# Altium footprint library Ad_Fpga.PcbLib: 52 footprints (part 4 of 4)
Each footprint in its own frame and in the unit in brackets; x right, y up, seen from the top. Pads: shape width x height; smd on the part's side, far side on the other; paste and mask are expansions set on the pad; w line width, h text height; cw(c..) or ccw(c..) is an arc to the next point about the centre after c.
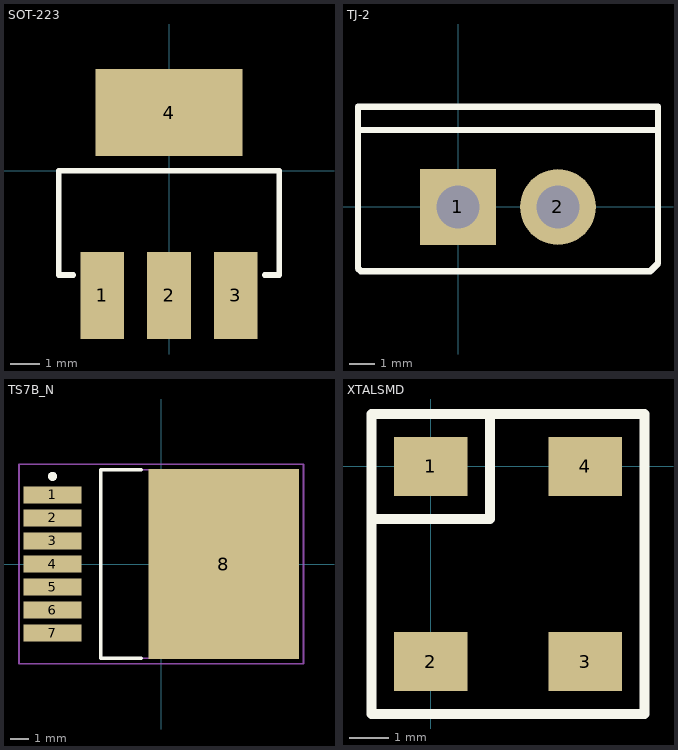
[diagram p3: the footprints below, top view; thin cyan lines are the x and y axes]

## SOT-223 [mm]
pads (4):
  rect 1.5x3 smd: 1(-2.3,-4.3) 2(0,-4.3) 3(2.3,-4.3)
  rect 5.08x3 smd: 4(0,2)
Top Overlay:
  lines w0.203: -3.3,-3.6 -3.8,-3.6 -3.8,0 3.8,0 3.8,-3.6 3.3,-3.6

## TJ-2 [mm]
pads (2):
  rect 3x3 hole 1.7: 1(-0.008,0)
  round 3 hole 1.7: 2(3.952,0)
Top Overlay:
  lines w0.254: -3.968,3.048 7.912,3.048 ; -3.968,-2.436 -3.968,0 -3.968,3.96 7.912,3.96 7.912,-2.24 7.612,-2.54 -3.864,-2.54 -3.968,-2.436

## TS7B_N [mm] "D2-PAK, 8-Leads, Body 8.6x10.2mm, Pitch 1.27mm, Lead Span 14.1mm, IPC Medium Density"
height 4.64
pads (8):
  rect 3.2x0.95 smd: 1(-6,3.81) 2(-6,2.54) 3(-6,1.27) 4(-6,0) 5(-6,-1.27) 6(-6,-2.54) 7(-6,-3.81)
  rect 8.3x10.5 smd: 8(3.45,0)
Top Overlay:
  circle w0.25: c-6,4.835 r0.125
  lines w0.2: -1.1,-5.2 -3.35,-5.2 -3.35,5.2 -1.1,5.2
Mechanical 13:
  lines w0.1: -3.35,-5.2 6.05,-5.2 6.05,5.2 -3.35,5.2 -3.35,-5.2
Mechanical 15:
  lines w0.1: -0.5,0 0.5,0 ; 0,-0.5 0,0.5 ; -7.85,-5.5 7.85,-5.5 7.85,5.5 -7.85,5.5 -7.85,-5.5
3D body: height 4.64, standoff 0, extent -3.35,-5.2 6.05,5.2

## XTALSMD [mil]
height 46.85
pads (4):
  rect 74x60 smd: 1(0,0) 2(0,-197) 3(156,-197) 4(156,0)
Top Overlay:
  lines w10: -60,-53 60,-53 60,53 ; -60,-250 -60,53 216,53 216,-250 -60,-250